# Altium schematic symbol library DB107-BP.SchLib: 1 symbol
Pins are listed as number, name and electrical type; pins without a type are passive.

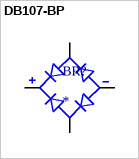
[diagram p0: symbol DB107-BP]

## DB107-BP
designator BR?
MF: {'manufacturer': u'Micro Commercial Components'}; MP: DB107-BP; Package: None; Price: None; Value: *; Availability: Unavailable
footprint DIP825W50P509L880H320Q4
pins: 1 POS, 2 NEG, 3 AC1, 4 AC2